# EAGLE library part KLEMME_MINI_10 (library pkess_klemmen)
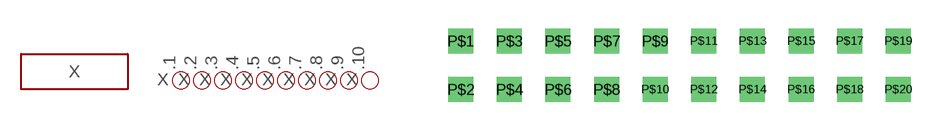
[diagram p0: symbol with the pads of KLEMME_2_10; footprint KLEMME_2_10]

Designator prefix X; gates .1=KLEMME_MINI .2=KLEMME_MINI .3=KLEMME_MINI .4=KLEMME_MINI .5=KLEMME_MINI .6=KLEMME_MINI .7=KLEMME_MINI .8=KLEMME_MINI .9=KLEMME_MINI .10=KLEMME_MINI KONTAKTSPIEGEL=KONTAKTSPIEGEL

## KLEMME_MINI_10  [KLEMME_2_10]
P$1  .1:1  pas
P$2  .1:2  pas
P$3  .2:1  pas
P$4  .2:2  pas
P$5  .3:1  pas
P$6  .3:2  pas
P$7  .4:1  pas
P$8  .4:2  pas
P$9  .5:1  pas
P$10  .5:2  pas
P$11  .6:1  pas
P$12  .6:2  pas
P$13  .7:1  pas
P$14  .7:2  pas
P$15  .8:1  pas
P$16  .8:2  pas
P$17  .9:1  pas
P$18  .9:2  pas
P$19  .10:1  pas
P$20  .10:2  pas

## Footprint KLEMME_2_10 (pad centres in mm)
drill 0.8 square: P$1 0,2.54; P$2 0,0; P$3 2.54,2.54; P$4 2.54,0; P$5 5.08,2.54; P$6 5.08,0; P$7 7.62,2.54; P$8 7.62,0; P$9 10.16,2.54; P$10 10.16,0; P$11 12.7,2.54; P$12 12.7,0; P$13 15.24,2.54; P$14 15.24,0; P$15 17.78,2.54; P$16 17.78,0; P$17 20.32,2.54; P$18 20.32,0; P$19 22.86,2.54; P$20 22.86,0